# EAGLE library part DEM16101 (library custom)
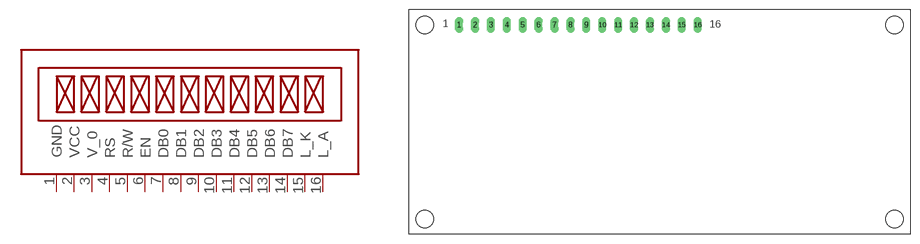
[diagram p12: symbol with the pads of DEM16101; footprint DEM16101]

Designator prefix -

## DEM16101  [DEM16101]
1  GND
2  VCC
3  V_0
4  RS
5  R/W
6  EN
7  DB0
8  DB1
9  DB2
10  DB3
11  DB4
12  DB5
13  DB6
14  DB7
15  L_K
16  L_A

## Footprint DEM16101 (pad centres in mm)
drill 0.8 long: 1 -32.02,15.51; 2 -29.48,15.51; 3 -26.94,15.51; 4 -24.4,15.51; 5 -21.86,15.51; 6 -19.32,15.51; 7 -16.78,15.51; 8 -14.24,15.51; 9 -11.7,15.51; 10 -9.16,15.51; 11 -6.62,15.51; 12 -4.08,15.51; 13 -1.54,15.51; 14 1,15.51; 15 3.54,15.51; 16 6.08,15.51
hole 2.8 at -37.5,15.5
hole 2.8 at 37.5,15.5
hole 2.8 at -37.5,-15.5
hole 2.8 at 37.5,-15.5